# Altium footprint library FOOTPRINTS.PcbLib: 10 footprints
Each footprint in its own frame and in the unit in brackets; x right, y up, seen from the top. Pads: shape width x height; smd on the part's side, far side on the other; paste and mask are expansions set on the pad; w line width, h text height; cw(c..) or ccw(c..) is an arc to the next point about the centre after c.
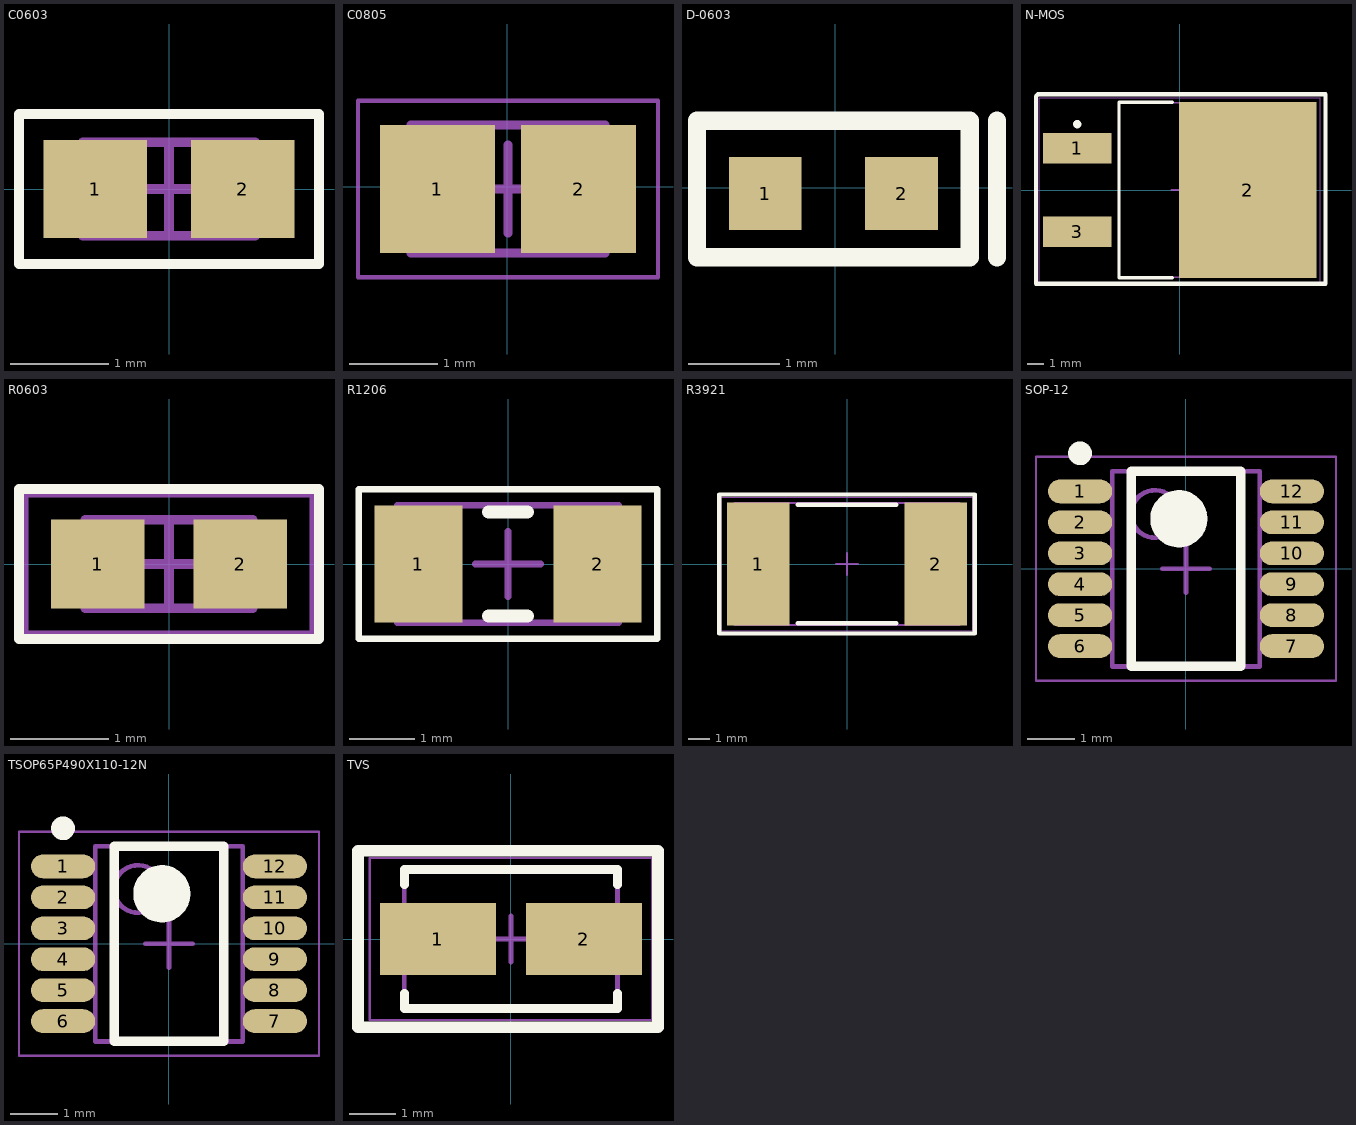
[diagram p0: the footprints below, top view; thin cyan lines are the x and y axes]

## C0603 [mm] "Chip Capacitor, 2-Leads, Body 1.60x0.80mm, IPC Medium Density"
height 0.88
pads (2):
  rect 1.05x1 smd: 1(-0.75,0) 2(0.75,0)
Top Overlay:
  lines w0.1: -1.524,-0.762 -1.524,0.762 1.524,0.762 1.524,-0.762 -1.524,-0.762
Mechanical 13:
  lines w0.1: -0.875,-0.475 0.875,-0.475 0.875,0.475 -0.875,0.475 -0.875,-0.475
Mechanical 15:
  lines w0.05: -1.5,-0.75 1.5,-0.75 1.5,0.75 -1.5,0.75 -1.5,-0.75
  lines w0.1: -0.475,0 0.475,0 ; 0,-0.475 0,0.475
3D body "CAPC1608X09N.step": height 0.88, standoff 0, extent -0.875,-0.475 0.875,0.475

## C0805 [mm] "Chip Capacitor, 2-Leads, Body 2.00x1.25mm, IPC Medium Density"
height 0.88
pads (2):
  rect 1.3x1.45 smd: 1(-0.794,-0.023) 2(0.806,-0.023)
Mechanical 13:
  lines w0.1: -1.094,-0.748 -1.094,0.702 1.106,0.702 1.106,-0.748 -1.094,-0.748
Mechanical 15:
  lines w0.05: -1.694,-1.023 -1.694,0.977 1.706,0.977 1.706,-1.023 -1.694,-1.023
  lines w0.1: -0.494,-0.023 0.506,-0.023 ; 0.006,-0.523 0.006,0.477
3D body "CAPC2012X14N.step": height 1.35, standoff 0, extent -1.094,-0.748 1.106,0.702

## D-0603 [mm] "Molded Diode, 2-Leads, Body 1.50x0.80mm, IPC Medium Density"
height 0.8
pads (2):
  rect 0.8x0.8 smd: 1(-0.772,-0.066) 2(0.728,-0.066)
Top Overlay:
  lines w0.2: 1.778,-0.766 1.778,0.734 ; -1.522,-0.766 1.478,-0.766 1.478,0.734 -1.522,0.734 -1.522,-0.766

## N-MOS [mm] "D2-PAK, 3-Pads, Body 7.94x8.70mm (max), IPC Medium Density"
height 4.83
pads (3):
  rect 4.15x1.85 smd: 1(-6.25,2.54) 3(-6.25,-2.54)
  rect 8.4x10.75 smd: 2(4.15,0)
Top Overlay:
  circle w0.25: c-6.25,4.015 r0.125
  lines w0.2: -0.45,-5.35 -3.7,-5.35 -3.7,5.35 -0.45,5.35
  lines w0.25: -8.763,-5.715 -8.763,5.715 -8.636,5.842 8.89,5.842 8.89,-4.572 8.89,-5.715 -8.763,-5.715
Mechanical 13:
  lines w0.1: -3.7,-5.325 5.98,-5.325 5.98,5.325 -3.7,5.325 -3.7,-5.325
Mechanical 15:
  lines w0.05: -8.55,-5.625 8.55,-5.625 8.55,5.625 -8.55,5.625 -8.55,-5.625
  lines w0.1: -0.5,0 0.5,0 ; 0,-0.5 0,0.5
3D body "DPAK254P1524X483-3N.step": height 5.57, standoff 0, extent -6.575,-5.325 8.67,5.325

## R0603 [mm] "Chip Resistor, 2-Leads, Body 1.60x0.80mm, IPC Medium Density"
height 0.55
pads (2):
  rect 0.95x0.9 smd: 1(-0.725,0) 2(0.725,0)
Top Overlay:
  lines w0.1: -1.524,-0.762 1.524,-0.762 1.524,0.762 -1.524,0.762 -1.524,-0.762
Mechanical 13:
  lines w0.1: -0.85,-0.45 -0.85,0.45 0.85,0.45 0.85,-0.45 -0.85,-0.45
Mechanical 15:
  lines w0.05: -1.45,-0.7 -1.45,0.7 1.45,0.7 1.45,-0.7 -1.45,-0.7
  lines w0.1: -0.45,0 0.45,0 ; 0,-0.45 0,0.45
3D body "RESC1608X06N.step": height 0.55, standoff 0, extent -0.85,-0.45 0.85,0.45

## R1206 [mm] "Chip Resistor, 2-Leads, Body 3.20x1.60mm, IPC Medium Density"
height 0.75
pads (2):
  rect 1.35x1.8 smd: 1(-1.375,0) 2(1.375,0)
Top Overlay:
  lines w0.1: -2.286,-1.143 2.286,-1.143 2.286,1.143 -2.286,1.143 -2.286,-1.143
  lines w0.2: -0.3,-0.8 0.3,-0.8 ; -0.3,0.8 0.3,0.8
Mechanical 13:
  lines w0.1: -1.7,-0.9 1.7,-0.9 1.7,0.9 -1.7,0.9 -1.7,-0.9
Mechanical 15:
  lines w0.05: -2.3,-1.15 2.3,-1.15 2.3,1.15 -2.3,1.15 -2.3,-1.15
  lines w0.1: -0.5,0 0.5,0 ; 0,-0.5 0,0.5
3D body "RESC3216X08N.step": height 0.75, standoff 0, extent -1.7,-0.9 1.7,0.9

## R3921 [mm] "Chip Resistor, 2-Leads, Body 10.00x5.20mm, IPC Medium Density"
height 1.19
pads (2):
  rect 2.85x5.6 smd: 1(-4.05,0) 2(4.05,0)
Top Overlay:
  lines w0.2: -2.25,-2.7 2.25,-2.7 ; -2.25,2.7 2.25,2.7 ; -5.842,-3.175 5.842,-3.175 5.842,3.175 -5.842,3.175 -5.842,-3.175
Mechanical 13:
  lines w0.1: -5.125,-2.79 -5.125,2.79 5.125,2.79 5.125,-2.79 -5.125,-2.79
Mechanical 15:
  lines w0.05: -5.75,-3.05 -5.75,3.05 5.75,3.05 5.75,-3.05 -5.75,-3.05
  lines w0.1: -0.5,0 0.5,0 ; 0,-0.5 0,0.5
3D body "RESC10052X12N.step": height 1.19, standoff 0, extent -5.125,-2.79 5.125,2.79

## SOP-12 [mm] "TSOP, 12-Leads, Body 4.04x3.00mm, Pitch 0.65mm, IPC Medium Density"
height 1.1
pads (12):
  oval 1.35x0.5 smd mask+0.051: 1(-2.225,1.625) 2(-2.225,0.975) 3(-2.225,0.325) 4(-2.225,-0.325) 5(-2.225,-0.975) 6(-2.225,-1.625) 7(2.225,-1.625) 8(2.225,-0.975) 9(2.225,-0.325) 10(2.225,0.325) 11(2.225,0.975) 12(2.225,1.625)
Top Overlay:
  circle w0.6: c-0.15,1.05 r0.3
  circle w0.25: c-2.225,2.425 r0.125
  lines w0.2: -1.15,-2.05 1.15,-2.05 1.15,2.05 -1.15,2.05 -1.15,-2.05
Mechanical 13:
  circle w0.1: c-0.65,1.15 r0.5
  lines w0.1: -1.55,-2.05 1.55,-2.05 1.55,2.05 -1.55,2.05 -1.55,-2.05
Mechanical 15:
  lines w0.05: -3.15,-2.35 3.15,-2.35 3.15,2.35 -3.15,2.35 -3.15,-2.35
  lines w0.1: -0.5,0 0.5,0 ; 0,-0.5 0,0.5
3D body "TSOP65P490X110-12N.step": height 1.1, standoff 0, extent -2.45,-2.05 2.45,2.05

## TSOP65P490X110-12N [mm] "TSOP, 12-Leads, Body 4.04x3.00mm, Pitch 0.65mm, IPC Medium Density"
height 1.1
pads (12):
  oval 1.35x0.5 smd: 1(-2.225,1.625) 2(-2.225,0.975) 3(-2.225,0.325) 4(-2.225,-0.325) 5(-2.225,-0.975) 6(-2.225,-1.625) 7(2.225,-1.625) 8(2.225,-0.975) 9(2.225,-0.325) 10(2.225,0.325) 11(2.225,0.975) 12(2.225,1.625)
Top Overlay:
  circle w0.6: c-0.15,1.05 r0.3
  circle w0.25: c-2.225,2.425 r0.125
  lines w0.2: -1.15,-2.05 1.15,-2.05 1.15,2.05 -1.15,2.05 -1.15,-2.05
Mechanical 13:
  circle w0.1: c-0.65,1.15 r0.5
  lines w0.1: -1.55,-2.05 1.55,-2.05 1.55,2.05 -1.55,2.05 -1.55,-2.05
Mechanical 15:
  lines w0.05: -3.15,-2.35 3.15,-2.35 3.15,2.35 -3.15,2.35 -3.15,-2.35
  lines w0.1: -0.5,0 0.5,0 ; 0,-0.5 0,0.5
3D body "TSOP65P490X110-12N.step": height 1.1, standoff 0, extent -2.45,-2.05 2.45,2.05

## TVS [mm] "Molded Inductor, 2-Leads, Body 4.30x2.61mm, IPC Medium Density"
height 2.4
pads (2):
  rect 2.5x1.55 smd: 1(-1.575,0) 2(1.575,0)
Top Overlay:
  lines w0.2: -2.3,-1.175 -2.3,-1.5 2.3,-1.5 2.3,-1.175 ; -2.3,1.175 -2.3,1.5 2.3,1.5 2.3,1.175
  lines w0.25: -3.302,1.651 -3.302,-1.905 ; -3.302,-1.905 -3.302,1.905 -3.048,1.905 3.175,1.905 3.175,-1.905 -3.302,-1.905
Mechanical 13:
  lines w0.1: -2.3,-1.46 2.3,-1.46 2.3,1.46 -2.3,1.46 -2.3,-1.46
Mechanical 15:
  lines w0.05: -3.05,-1.75 3.05,-1.75 3.05,1.75 -3.05,1.75 -3.05,-1.75
  lines w0.1: -0.5,0 0.5,0 ; 0,-0.5 0,0.5
3D body "INDM4326X24N.step": height 2.4, standoff 0, extent -2.52,-1.46 2.52,1.46